# Altium footprint library Potentiometer.PcbLib: 1 footprints
Each footprint in its own frame and in the unit in brackets; x right, y up, seen from the top. Pads: shape width x height; smd on the part's side, far side on the other; paste and mask are expansions set on the pad; w line width, h text height; cw(c..) or ccw(c..) is an arc to the next point about the centre after c.
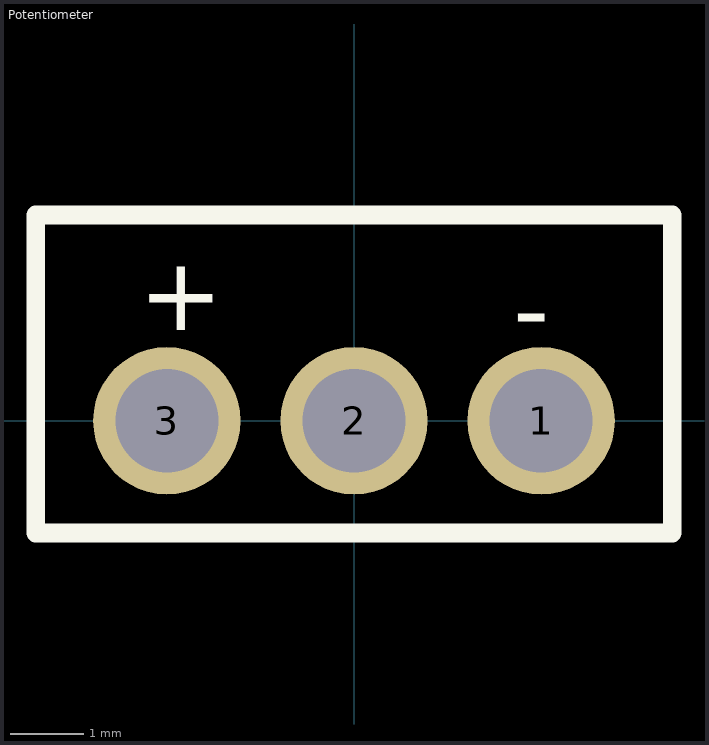
[diagram p0: the footprint, top view; thin cyan lines are the x and y axes]

## Potentiometer [mm]
pads (3):
  round 2 hole 1.4: 1(2.54,0) 2(0,0) 3(-2.54,0)
Top Overlay:
  lines w0.254: -4.318,-1.524 4.318,-1.524 4.318,2.794 -4.318,2.794 -4.318,-1.524
  text "-" at 2.159,1.024 h1
  text "+" at -2.921,1.23 h1